# EAGLE library part EHF17-* (library con-samtec-ehf)
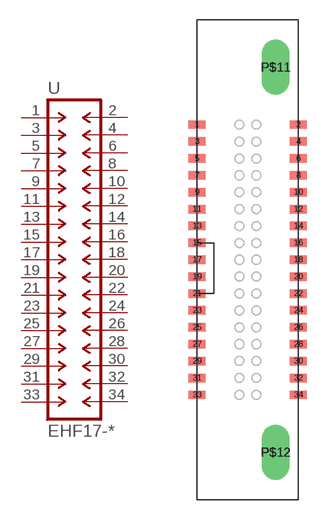
[diagram p0: symbol with the pads of EHF34; footprint EHF34]

Designator prefix -

## EHF17-  [EHF34]
1  1  pas
2  2  pas
3  3  pas
4  4  pas
5  5  pas
6  6  pas
7  7  pas
8  8  pas
9  9  pas
10  10  pas
11  11  pas
12  12  pas
13  13  pas
14  14  pas
15  15  pas
16  16  pas
17  17  pas
18  18  pas
19  19  pas
20  20  pas
21  21  pas
22  22  pas
23  23  pas
24  24  pas
25  25  pas
26  26  pas
27  27  pas
28  28  pas
29  29  pas
30  30  pas
31  31  pas
32  32  pas
33  33  pas
34  34  pas

## Footprint EHF34 (pad centres in mm)
smd 1.27 x 0.635: 1 -3.81,10.16; 2 3.81,10.16; 3 -3.81,8.89; 4 3.81,8.89; 5 -3.81,7.62; 6 3.81,7.62; 7 -3.81,6.35; 8 3.81,6.35; 9 -3.81,5.08; 10 3.81,5.08; 11 -3.81,3.81; 12 3.81,3.81; 13 -3.81,2.54; 14 3.81,2.54; 15 -3.81,1.27; 16 3.81,1.27; 17 -3.81,0; 18 3.81,0; 19 -3.81,-1.27; 20 3.81,-1.27; 21 -3.81,-2.54; 22 3.81,-2.54; 23 -3.81,-3.81; 24 3.81,-3.81; 25 -3.81,-5.08; 26 3.81,-5.08; 27 -3.81,-6.35; 28 3.81,-6.35; 29 -3.81,-7.62; 30 3.81,-7.62; 31 -3.81,-8.89; 32 3.81,-8.89; 33 -3.81,-10.16; 34 3.81,-10.16
drill 1.397 long: P$11 2.108,14.478; P$12 2.108,-14.478